# Altium schematic symbol library 222-4417.SchLib: 1 symbol
Pins are listed as number, name and electrical type; pins without a type are passive.

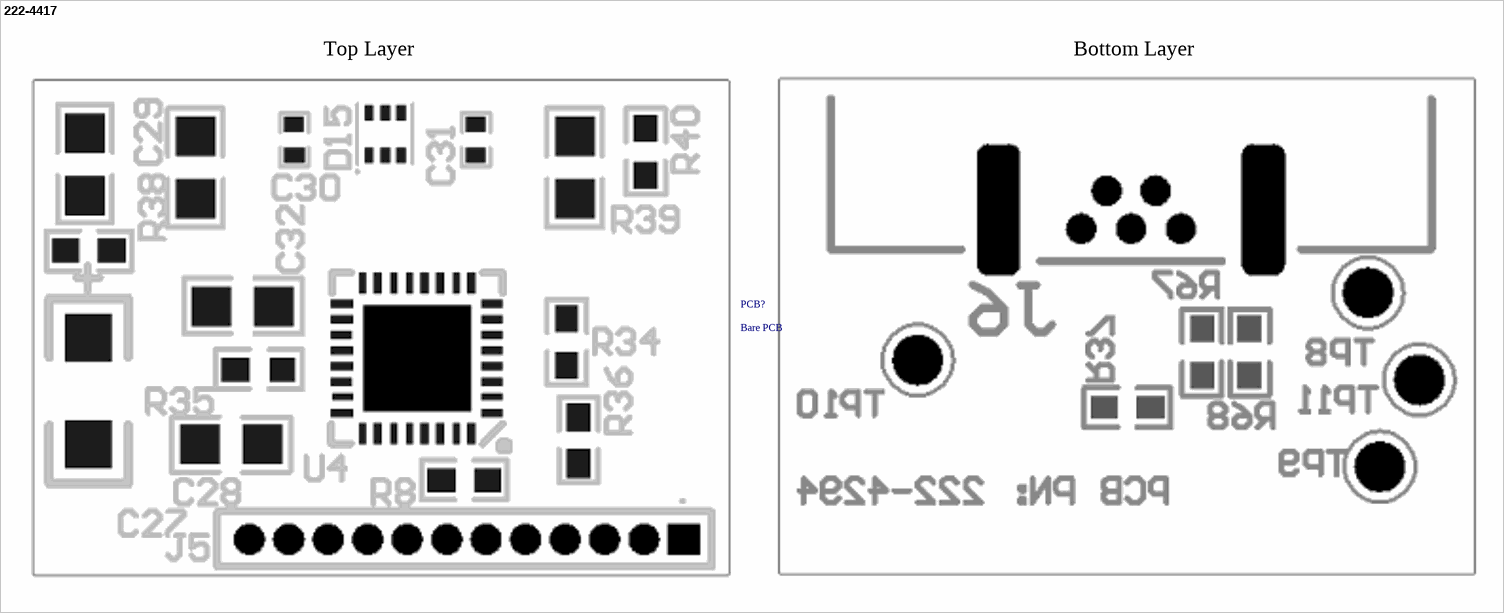
[diagram p0: symbol 222-4417]

## 222-4417
designator PCB?, comment Bare PCB
USB Bare PCB for UART Comm
text: Top Layer; Bottom Layer